# Altium integrated library OSD335-X_Devboard.IntLib: 73 symbols (part 2 of 2)
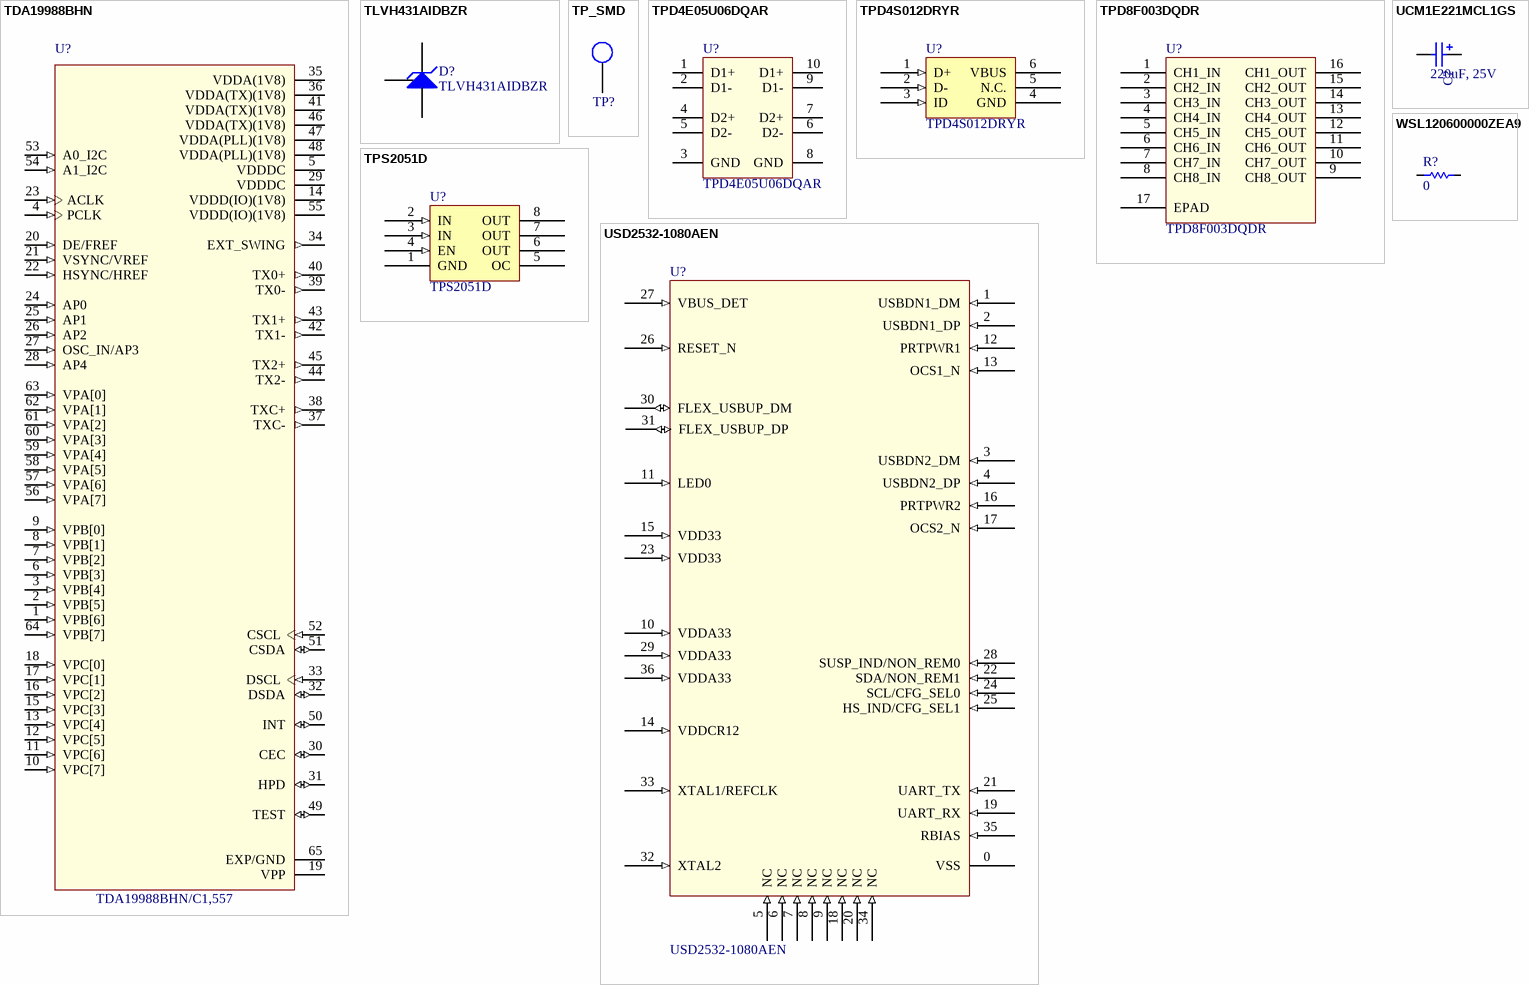
[diagram p3: symbols TDA19988BHN to WSL120600000ZEA9]

## UCM1E221MCL1GS
designator C?, comment 220uF, 25V
CAP ALUM 220UF 20% 25V SMD; Manufacturer Part No.: UCM1E221MCL1GS; Manufacturer: Nichicon; Rated Voltage: 25 VDC; ComponentLink1Description: Manufacturer; ComponentLink1URL: http://www.we-online.de; ComponentLink2Description: Datasheet; ComponentLink2URL: https://katalog.we-online.com/pbs/datasheet/865080345012.pdf; Mounting Technology: SMD; Value: 220uF; Tolerance: 20%; Datasheet: https://www.nichicon.co.jp/english/products/pdfs/e-ucm.pdf; Supplier: Digi-Key; Supplier Part No.: 493-14530-1-ND; Package Description: 220µF 25V Aluminum Electrolytic Capacitors Radial, Can - SMD  2000 Hrs @ 105°C
footprint CAP_SMD_6.3x7.7 (Aluminium Electrolytic V-Chip SMT Capacitors, 6.3x7.7mm)
pins: 1 N, 2 P

## USD2532-1080AEN
designator U?
IC USB 2.0 HUB CTLR 2PORT 36SQFN; Manufacturer: Microchip Technology; Manufacturer Part No.: USB2532-1080AEN; ComponentLink1Description: Manufacturer Link; ComponentLink1URL: http://www.vishay.com/company/brands/dale/; ComponentLink2Description: Datasheet; ComponentLink2URL: http://www.vishay.com/docs/20035/dcrcwe3.pdf; Supplier: Digikey; Supplier Part No.: USB2532-1080AEN-ND; Datasheet: http://www.microchip.com/mymicrochip/filehandler.aspx?ddocname=en567006; Package Reference: 36SQFN; Package Description: QFN; Mounting Technology: SMD
pins: 0 VSS (power) "ground pad", 1 USBDN1_DM (in), 2 USBDN1_DP (in), 3 USBDN2_DM (in), 4 USBDN2_DP (in), 5 NC (in), 6 NC (in), 7 NC (in), 8 NC (in), 9 NC (in), 10 VDDA33 (in), 11 LED0 (in), 12 PRTPWR1 (in), 13 OCS1_N (in), 14 VDDCR12 (in), 15 VDD33 (in), 16 PRTPWR2 (in), 17 OCS2_N (in), 18 NC (in), 19 UART_RX (in), 20 NC (in), 21 UART_TX (in), 22 SDA/NON_REM1 (in), 23 VDD33 (in), 24 SCL/CFG_SEL0 (in), 25 HS_IND/CFG_SEL1 (in), 26 RESET_N (in), 27 VBUS_DET (in), 28 SUSP_IND/NON_REM0 (in), 29 VDDA33 (in), 30 FLEX_USBUP_DM (io), 31 FLEX_USBUP_DP (io), 32 XTAL2 (in), 33 XTAL1/REFCLK (in), 34 NC (in), 35 RBIAS (in), 36 VDDA33 (in)

## WSL120600000ZEA9
designator R?, comment 0
RES 0 OHM JUMPER 1206; Manufacturer: Vishay Dale; Manufacturer Part No.: WSL120600000ZEA9; Power Rating: 1/4W; Tolerance: 0; Date: 2020; ComponentLink1Description: Manufacturer Link; ComponentLink1URL: http://www.vishay.com/company/brands/dale/; ComponentLink2Description: Datasheet; ComponentLink2URL: http://www.vishay.com/docs/20035/dcrcwe3.pdf; Supplier: Digikey; Supplier Part No.: 541-3929-1-ND; Datasheet: http://www.vishay.com/docs/30192/wsl-9.pdf; Package Reference: RES_1206; Package Description: 1206; Mounting Technology: SMD; Value: 0
footprint RES_1206
pins: 1, 2